# Altium schematic symbol library lebomb.SCHLIB: 11 symbols
Pins are listed as number, name and electrical type; pins without a type are passive.

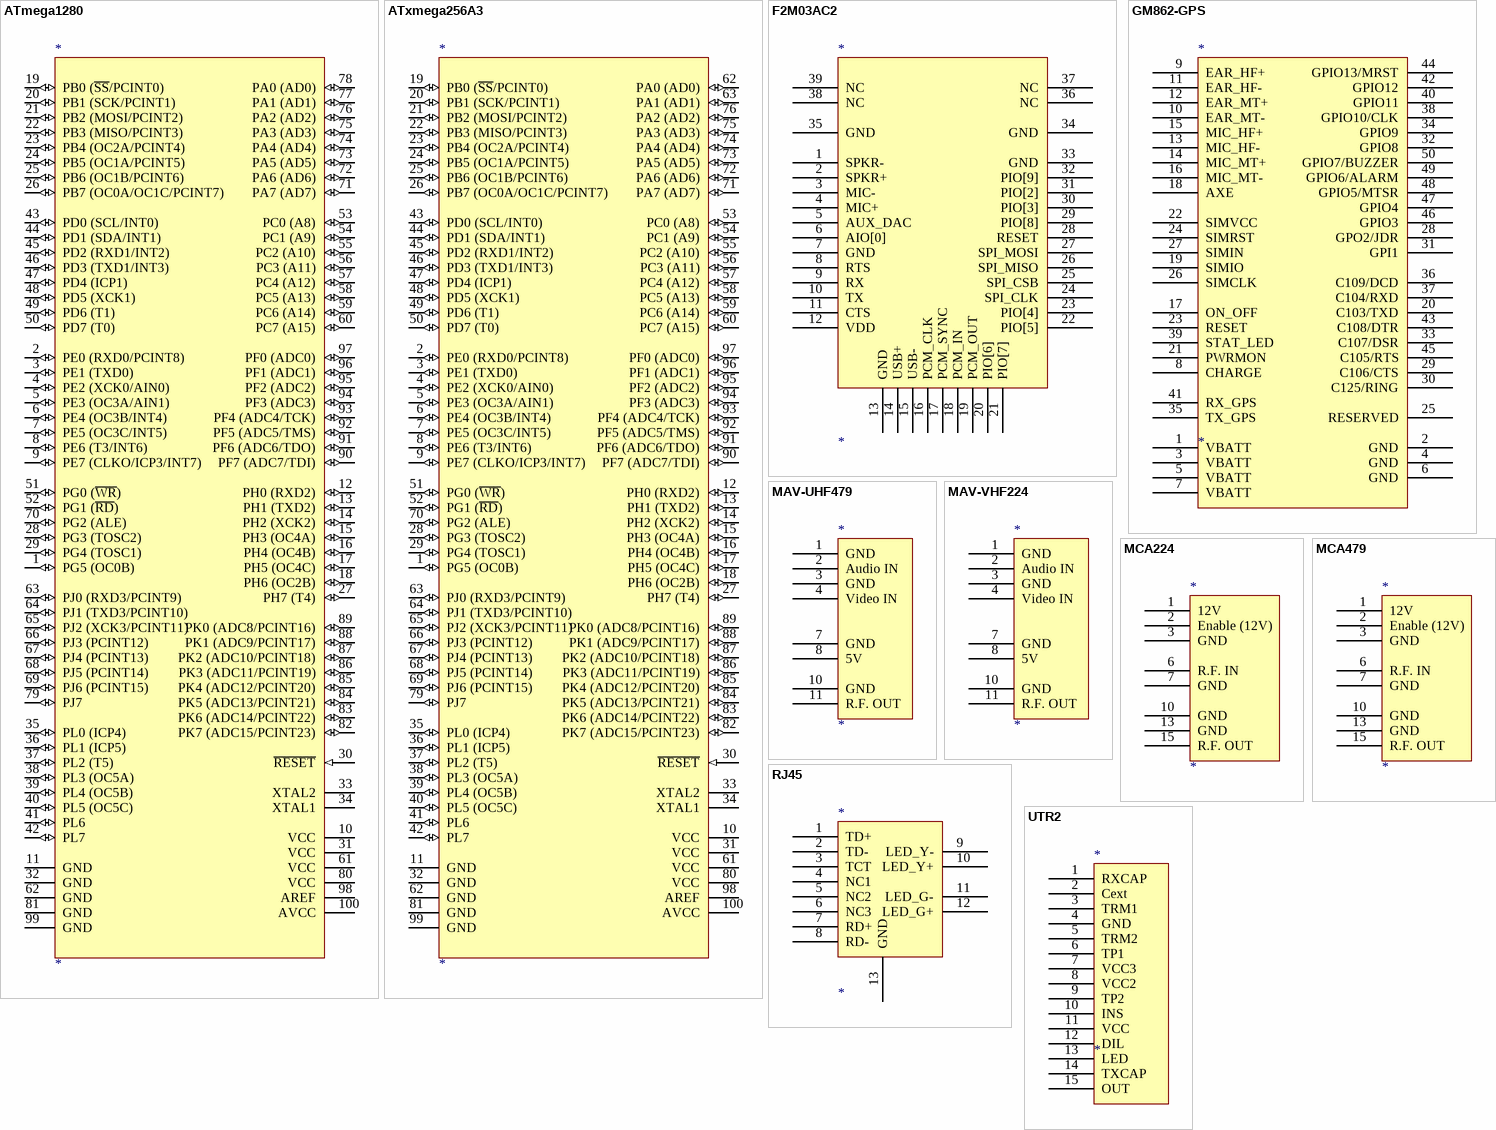
[diagram p0: symbols ATmega1280 to UTR2]

## ATmega1280
designator *
footprint QFP65P1680X1680-80N (80-Pin Quad Flat Pack 0.65 mm Pitch)
pins: 1 PG5 (OC0B) (io), 2 PE0 (RXD0/PCINT8) (io), 3 PE1 (TXD0) (io), 4 PE2 (XCK0/AIN0) (io), 5 PE3 (OC3A/AIN1) (io), 6 PE4 (OC3B/INT4) (io), 7 PE5 (OC3C/INT5) (io), 8 PE6 (T3/INT6) (io), 9 PE7 (CLKO/ICP3/INT7) (io), 10 VCC (power), 11 GND (power), 12 PH0 (RXD2) (io), 13 PH1 (TXD2) (io), 14 PH2 (XCK2) (io), 15 PH3 (OC4A) (io), 16 PH4 (OC4B) (io), 17 PH5 (OC4C) (io), 18 PH6 (OC2B) (io), 19 PB0 (~{SS}/PCINT0) (io), 20 PB1 (SCK/PCINT1) (io), 21 PB2 (MOSI/PCINT2) (io), 22 PB3 (MISO/PCINT3) (io), 23 PB4 (OC2A/PCINT4) (io), 24 PB5 (OC1A/PCINT5) (io), 25 PB6 (OC1B/PCINT6) (io), 26 PB7 (OC0A/OC1C/PCINT7) (io), 27 PH7 (T4) (io), 28 PG3 (TOSC2) (io), 29 PG4 (TOSC1) (io), 30 ~{RESET} (in), 31 VCC (power), 32 GND (power), 33 XTAL2, 34 XTAL1, 35 PL0 (ICP4) (io), 36 PL1 (ICP5) (io), 37 PL2 (T5) (io), 38 PL3 (OC5A) (io), 39 PL4 (OC5B) (io), 40 PL5 (OC5C) (io), 41 PL6 (io), 42 PL7 (io), 43 PD0 (SCL/INT0) (io), 44 PD1 (SDA/INT1) (io), 45 PD2 (RXD1/INT2) (io), 46 PD3 (TXD1/INT3) (io), 47 PD4 (ICP1) (io), 48 PD5 (XCK1) (io), 49 PD6 (T1) (io), 50 PD7 (T0) (io), 51 PG0 (~{WR}) (io), 52 PG1 (~{RD}) (io), 53 PC0 (A8) (io), 54 PC1 (A9) (io), 55 PC2 (A10) (io), 56 PC3 (A11) (io), 57 PC4 (A12) (io), 58 PC5 (A13) (io), 59 PC6 (A14) (io), 60 PC7 (A15) (io), 61 VCC (power), 62 GND (power), 63 PJ0 (RXD3/PCINT9) (io), 64 PJ1 (TXD3/PCINT10) (io), 65 PJ2 (XCK3/PCINT11) (io), 66 PJ3 (PCINT12) (io), 67 PJ4 (PCINT13) (io), 68 PJ5 (PCINT14) (io), 69 PJ6 (PCINT15) (io), 70 PG2 (ALE) (io), 71 PA7 (AD7) (io), 72 PA6 (AD6) (io), 73 PA5 (AD5) (io), 74 PA4 (AD4) (io), 75 PA3 (AD3) (io), 76 PA2 (AD2) (io), 77 PA1 (AD1) (io), 78 PA0 (AD0) (io), 79 PJ7 (io), 80 VCC (power), 81 GND (power), 82 PK7 (ADC15/PCINT23) (io), 83 PK6 (ADC14/PCINT22) (io), 84 PK5 (ADC13/PCINT21) (io), 85 PK4 (ADC12/PCINT20) (io), 86 PK3 (ADC11/PCINT19) (io), 87 PK2 (ADC10/PCINT18) (io), 88 PK1 (ADC9/PCINT17) (io), 89 PK0 (ADC8/PCINT16) (io), 90 PF7 (ADC7/TDI) (io), 91 PF6 (ADC6/TDO) (io), 92 PF5 (ADC5/TMS) (io), 93 PF4 (ADC4/TCK) (io), 94 PF3 (ADC3) (io), 95 PF2 (ADC2) (io), 96 PF1 (ADC1) (io), 97 PF0 (ADC0) (io), 98 AREF, 99 GND (power), 100 AVCC (power)

## ATxmega256A3
designator *
footprint QFP65P1520X1520-64N (QFP, 64-Leads, Body 12 x 12 mm, Pitch 0.65mm, IPC Medium Density)
pins: 1 PG5 (OC0B) (io), 2 PE0 (RXD0/PCINT8) (io), 3 PE1 (TXD0) (io), 4 PE2 (XCK0/AIN0) (io), 5 PE3 (OC3A/AIN1) (io), 6 PE4 (OC3B/INT4) (io), 7 PE5 (OC3C/INT5) (io), 8 PE6 (T3/INT6) (io), 9 PE7 (CLKO/ICP3/INT7) (io), 10 VCC (power), 11 GND (power), 12 PH0 (RXD2) (io), 13 PH1 (TXD2) (io), 14 PH2 (XCK2) (io), 15 PH3 (OC4A) (io), 16 PH4 (OC4B) (io), 17 PH5 (OC4C) (io), 18 PH6 (OC2B) (io), 19 PB0 (~{SS}/PCINT0) (io), 20 PB1 (SCK/PCINT1) (io), 21 PB2 (MOSI/PCINT2) (io), 22 PB3 (MISO/PCINT3) (io), 23 PB4 (OC2A/PCINT4) (io), 24 PB5 (OC1A/PCINT5) (io), 25 PB6 (OC1B/PCINT6) (io), 26 PB7 (OC0A/OC1C/PCINT7) (io), 27 PH7 (T4) (io), 28 PG3 (TOSC2) (io), 29 PG4 (TOSC1) (io), 30 ~{RESET} (in), 31 VCC (power), 32 GND (power), 33 XTAL2, 34 XTAL1, 35 PL0 (ICP4) (io), 36 PL1 (ICP5) (io), 37 PL2 (T5) (io), 38 PL3 (OC5A) (io), 39 PL4 (OC5B) (io), 40 PL5 (OC5C) (io), 41 PL6 (io), 42 PL7 (io), 43 PD0 (SCL/INT0) (io), 44 PD1 (SDA/INT1) (io), 45 PD2 (RXD1/INT2) (io), 46 PD3 (TXD1/INT3) (io), 47 PD4 (ICP1) (io), 48 PD5 (XCK1) (io), 49 PD6 (T1) (io), 50 PD7 (T0) (io), 51 PG0 (~{WR}) (io), 52 PG1 (~{RD}) (io), 53 PC0 (A8) (io), 54 PC1 (A9) (io), 55 PC2 (A10) (io), 56 PC3 (A11) (io), 57 PC4 (A12) (io), 58 PC5 (A13) (io), 59 PC6 (A14) (io), 60 PC7 (A15) (io), 61 VCC (power), 62 PA0 (AD0) (io), 62 GND (power), 63 PA1 (AD1) (io), 63 PJ0 (RXD3/PCINT9) (io), 64 PJ1 (TXD3/PCINT10) (io), 65 PJ2 (XCK3/PCINT11) (io), 66 PJ3 (PCINT12) (io), 67 PJ4 (PCINT13) (io), 68 PJ5 (PCINT14) (io), 69 PJ6 (PCINT15) (io), 70 PG2 (ALE) (io), 71 PA7 (AD7) (io), 72 PA6 (AD6) (io), 73 PA5 (AD5) (io), 74 PA4 (AD4) (io), 75 PA3 (AD3) (io), 76 PA2 (AD2) (io), 79 PJ7 (io), 80 VCC (power), 81 GND (power), 82 PK7 (ADC15/PCINT23) (io), 83 PK6 (ADC14/PCINT22) (io), 84 PK5 (ADC13/PCINT21) (io), 85 PK4 (ADC12/PCINT20) (io), 86 PK3 (ADC11/PCINT19) (io), 87 PK2 (ADC10/PCINT18) (io), 88 PK1 (ADC9/PCINT17) (io), 89 PK0 (ADC8/PCINT16) (io), 90 PF7 (ADC7/TDI) (io), 91 PF6 (ADC6/TDO) (io), 92 PF5 (ADC5/TMS) (io), 93 PF4 (ADC4/TCK) (io), 94 PF3 (ADC3) (io), 95 PF2 (ADC2) (io), 96 PF1 (ADC1) (io), 97 PF0 (ADC0) (io), 98 AREF, 99 GND (power), 100 AVCC (power)

## F2M03AC2
designator *
footprint F2M03AC2
footprint F2M03AC2_conn
pins: 1 SPKR-, 2 SPKR+, 3 MIC-, 4 MIC+, 5 AUX_DAC, 6 AIO[0], 7 GND, 8 RTS, 9 RX, 10 TX, 11 CTS, 12 VDD, 13 GND, 14 USB+, 15 USB-, 16 PCM_CLK, 17 PCM_SYNC, 18 PCM_IN, 19 PCM_OUT, 20 PIO[6], 21 PIO[7], 22 PIO[5], 23 PIO[4], 24 SPI_CLK, 25 SPI_CSB, 26 SPI_MISO, 27 SPI_MOSI, 28 RESET, 29 PIO[8], 30 PIO[3], 31 PIO[2], 32 PIO[9], 33 GND, 34 GND, 35 GND, 36 NC, 37 NC, 38 NC, 39 NC

## GM862-GPS
designator *
footprint GM862-GPS
pins: 1 VBATT, 2 GND, 3 VBATT, 4 GND, 5 VBATT, 6 GND, 7 VBATT, 8 CHARGE, 9 EAR_HF+, 10 EAR_MT-, 11 EAR_HF-, 12 EAR_MT+, 13 MIC_HF-, 14 MIC_MT+, 15 MIC_HF+, 16 MIC_MT-, 17 ON_OFF, 18 AXE, 19 SIMIO, 20 C103/TXD, 21 PWRMON, 22 SIMVCC, 23 RESET, 24 SIMRST, 25 RESERVED, 26 SIMCLK, 27 SIMIN, 28 GPO2/JDR, 29 C106/CTS, 30 C125/RING, 31 GPI1, 32 GPIO8, 33 C107/DSR, 34 GPIO9, 35 TX_GPS, 36 C109/DCD, 37 C104/RXD, 38 GPIO10/CLK, 39 STAT_LED, 40 GPIO11, 41 RX_GPS, 42 GPIO12, 43 C108/DTR, 44 GPIO13/MRST, 45 C105/RTS, 46 GPIO3, 47 GPIO4, 48 GPIO5/MTSR, 49 GPIO6/ALARM, 50 GPIO7/BUZZER

## MAV-UHF479
designator *
footprint MAV-UHF479
pins: 1 GND, 2 Audio IN, 3 GND, 4 Video IN, 7 GND, 8 5V, 10 GND, 11 R.F. OUT

## MAV-VHF224
designator *
footprint MAV-VHF224
pins: 1 GND, 2 Audio IN, 3 GND, 4 Video IN, 7 GND, 8 5V, 10 GND, 11 R.F. OUT

## MCA224
designator *
footprint MCA224
pins: 1 12V, 2 Enable (12V), 3 GND, 6 R.F. IN, 7 GND, 10 GND, 13 GND, 15 R.F. OUT

## MCA479
designator *
footprint MCA479
pins: 1 12V, 2 Enable (12V), 3 GND, 6 R.F. IN, 7 GND, 10 GND, 13 GND, 15 R.F. OUT

## RJ45
designator *
footprint RJ45
pins: 1 TD+, 2 TD-, 3 TCT, 4 NC1, 5 NC2, 6 NC3, 7 RD+, 8 RD-, 9 LED_Y-, 10 LED_Y+, 11 LED_G-, 12 LED_G+, 13 GND

## UTR2
designator *
footprint UTR2
pins: 1 RXCAP, 2 Cext, 3 TRM1, 4 GND, 5 TRM2, 6 TP1, 7 VCC3, 8 VCC2, 9 TP2, 10 INS, 11 VCC, 12 DIL, 13 LED, 14 TXCAP, 15 OUT

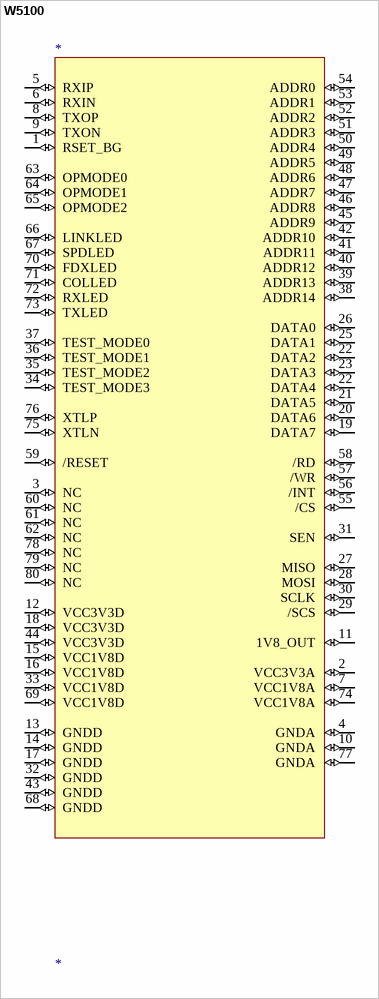
[diagram p1: symbol W5100]

## W5100
designator *
footprint QFP65P1680X1680-80N (80-Pin Quad Flat Pack 0.65 mm Pitch)
pins: 1 RSET_BG (io), 2 VCC3V3A (io), 3 NC (io), 4 GNDA (io), 5 RXIP (io), 6 RXIN (io), 7 VCC1V8A (io), 8 TXOP (io), 9 TXON (io), 10 GNDA (io), 11 1V8_OUT (io), 12 VCC3V3D (io), 13 GNDD (io), 14 GNDD (io), 15 VCC1V8D (io), 16 VCC1V8D (io), 17 GNDD (io), 18 VCC3V3D (io), 19 DATA7 (io), 20 DATA6 (io), 21 DATA5 (io), 22 DATA2 (io), 22 DATA4 (io), 23 DATA3 (io), 25 DATA1 (io), 26 DATA0 (io), 27 MISO (io), 28 MOSI (io), 29 /SCS (io), 30 SCLK (io), 31 SEN (io), 32 GNDD (io), 33 VCC1V8D (io), 34 TEST_MODE3 (io), 35 TEST_MODE2 (io), 36 TEST_MODE1 (io), 37 TEST_MODE0 (io), 38 ADDR14 (io), 39 ADDR13 (io), 40 ADDR12 (io), 41 ADDR11 (io), 42 ADDR10 (io), 43 GNDD (io), 44 VCC3V3D (io), 45 ADDR9 (io), 46 ADDR8 (io), 47 ADDR7 (io), 48 ADDR6 (io), 49 ADDR5 (io), 50 ADDR4 (io), 51 ADDR3 (io), 52 ADDR2 (io), 53 ADDR1 (io), 54 ADDR0 (io), 55 /CS (io), 56 /INT (io), 57 /WR (io), 58 /RD (io), 59 /RESET (io), 60 NC (io), 61 NC (io), 62 NC (io), 63 OPMODE0 (io), 64 OPMODE1 (io), 65 OPMODE2 (io), 66 LINKLED (io), 67 SPDLED (io), 68 GNDD (io), 69 VCC1V8D (io), 70 FDXLED (io), 71 COLLED (io), 72 RXLED (io), 73 TXLED (io), 74 VCC1V8A (io), 75 XTLN (io), 76 XTLP (io), 77 GNDA (io), 78 NC (io), 79 NC (io), 80 NC (io)